# EAGLE library part DSPIC33FJ128MC804 (library 0SBLib)
High-Performance,16-bit Digital Signal Controller
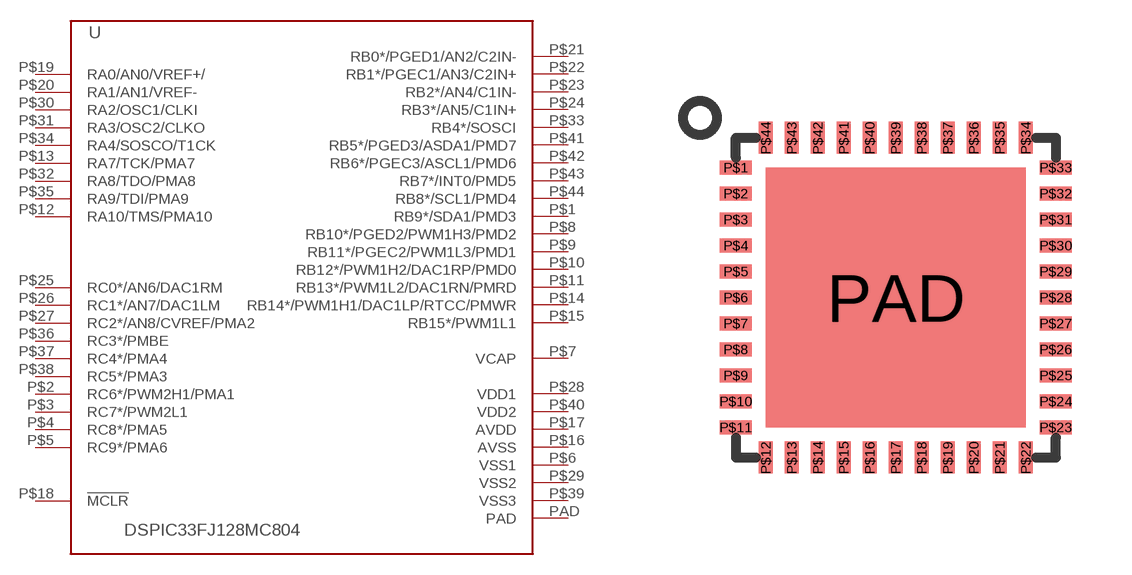
[diagram p31: symbol with the pads of QFN44-8X8; footprint QFN44-8X8]

Designator prefix -

## DSPIC33FJ128MC804_QFN  [QFN44-8X8]
P$1  RB9*/SDA1/PMD3
P$2  RC6*/PWM2H1/PMA1
P$3  RC7*/PWM2L1
P$4  RC8*/PMA5
P$5  RC9*/PMA6
P$6  VSS1
P$7  VCAP
P$8  RB10*/PGED2/PWM1H3/PMD2
P$9  RB11*/PGEC2/PWM1L3/PMD1
P$10  RB12*/PWM1H2/DAC1RP/PMD0
P$11  RB13*/PWM1L2/DAC1RN/PMRD
P$12  RA10/TMS/PMA10
P$13  RA7/TCK/PMA7
P$14  RB14*/PWM1H1/DAC1LP/RTCC/PMWR
P$15  RB15*/PWM1L1
P$16  AVSS
P$17  AVDD
P$18  !MCLR
P$19  RA0/AN0/VREF+/
P$20  RA1/AN1/VREF-
P$21  RB0*/PGED1/AN2/C2IN-
P$22  RB1*/PGEC1/AN3/C2IN+
P$23  RB2*/AN4/C1IN-
P$24  RB3*/AN5/C1IN+
P$25  RC0*/AN6/DAC1RM
P$26  RC1*/AN7/DAC1LM
P$27  RC2*/AN8/CVREF/PMA2
P$28  VDD1
P$29  VSS2
P$30  RA2/OSC1/CLKI
P$31  RA3/OSC2/CLKO
P$32  RA8/TDO/PMA8
P$33  RB4*/SOSCI
P$34  RA4/SOSCO/T1CK
P$35  RA9/TDI/PMA9
P$36  RC3*/PMBE
P$37  RC4*/PMA4
P$38  RC5*/PMA3
P$39  VSS3
P$40  VDD2
P$41  RB5*/PGED3/ASDA1/PMD7
P$42  RB6*/PGEC3/ASCL1/PMD6
P$43  RB7*/INT0/PMD5
P$44  RB8*/SCL1/PMD4
PAD  PAD

## Footprint QFN44-8X8 (pad centres in mm)
smd 0.8 x 0.35: P$1 -4,3.25; P$2 -4,2.6; P$3 -4,1.95; P$4 -4,1.3; P$5 -4,0.65; P$6 -4,0; P$7 -4,-0.65; P$8 -4,-1.3; P$9 -4,-1.95; P$10 -4,-2.6; P$11 -4,-3.25; P$23 4,-3.25; P$24 4,-2.6; P$25 4,-1.95; P$26 4,-1.3; P$27 4,-0.65; P$28 4,0; P$29 4,0.65; P$30 4,1.3; P$31 4,1.95; P$32 4,2.6; P$33 4,3.25
smd 0.35 x 0.8: P$12 -3.25,-4; P$13 -2.6,-4; P$14 -1.95,-4; P$15 -1.3,-4; P$16 -0.65,-4; P$17 0,-4; P$18 0.65,-4; P$19 1.3,-4; P$20 1.95,-4; P$21 2.6,-4; P$22 3.25,-4; P$34 3.25,4; P$35 2.6,4; P$36 1.95,4; P$37 1.3,4; P$38 0.65,4; P$39 0,4; P$40 -0.65,4; P$41 -1.3,4; P$42 -1.95,4; P$43 -2.6,4; P$44 -3.25,4
smd 6.5 x 6.5: PAD 0,0